# Altium schematic symbol library 06033D104KAT2A.SchLib: 1 symbol
Pins are listed as number, name and electrical type; pins without a type are passive.

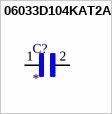
[diagram p0: symbol 06033D104KAT2A]

## 06033D104KAT2A
designator C?
Cap Ceramic 0.1uF 25V X5R 10% SMD 0603 85ÂÂŽ T/R; MP: 06033D104KAT2A; MF: {'manufacturer': u'AVX'}; Price: None; Availability: Unavailable; Value: *; Package: None
footprint CAPC1608X90N
pins: 1, 2